# Altium footprint library USL00-30L-C.PcbLib: 1 footprints
Each footprint in its own frame and in the unit in brackets; x right, y up, seen from the top. Pads: shape width x height; smd on the part's side, far side on the other; paste and mask are expansions set on the pad; w line width, h text height; cw(c..) or ccw(c..) is an arc to the next point about the centre after c.
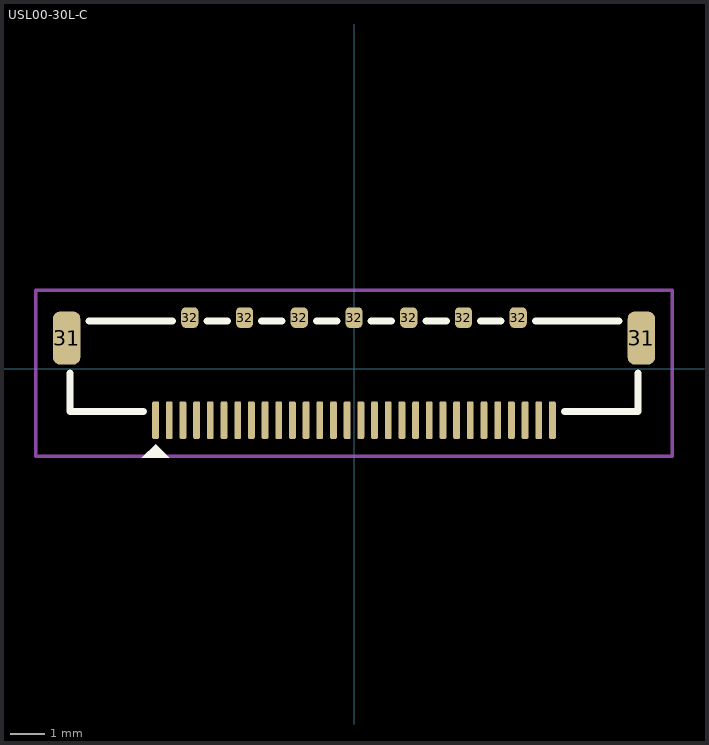
[diagram p0: the footprint, top view; thin cyan lines are the x and y axes]

## USL00-30L-C [mm]
pads (39):
  rrect50% 0.2x1.1 smd: 1(-5.8,-1.5) 2(-5.4,-1.5) 3(-5,-1.5) 4(-4.6,-1.5) 5(-4.2,-1.5) 6(-3.8,-1.5) 7(-3.4,-1.5) 8(-3,-1.5) 9(-2.6,-1.5) 10(-2.2,-1.5) 11(-1.8,-1.5) 12(-1.4,-1.5) 13(-1,-1.5) 14(-0.6,-1.5) 15(-0.2,-1.5) 16(0.2,-1.5) 17(0.6,-1.5) 18(1,-1.5) 19(1.4,-1.5) 20(1.8,-1.5) 21(2.2,-1.5) 22(2.6,-1.5) 23(3,-1.5) 24(3.4,-1.5) 25(3.8,-1.5) 26(4.2,-1.5) 27(4.6,-1.5) 28(5,-1.5) 29(5.4,-1.5) 30(5.8,-1.5)
  rrect50% 0.8x1.55 smd: 31(-8.4,0.9) 31(8.4,0.9)
  rrect50% 0.5x0.6 smd: 32(-4.8,1.5) 32(-3.2,1.5) 32(-1.6,1.5) 32(0,1.5) 32(1.6,1.5) 32(3.2,1.5) 32(4.8,1.5)
Top Overlay:
  region: -5.4,-2.6 -6.2,-2.6 -5.8,-2.2
  lines w0.2: -8.3,-0.125 -8.3,-1.25 -6.15,-1.25 ; -7.75,1.4 -5.3,1.4 ; -4.3,1.4 -3.7,1.4 ; -2.7,1.4 -2.1,1.4 ; -1.1,1.4 -0.5,1.4 ; 0.5,1.4 1.1,1.4 ; 2.1,1.4 2.7,1.4 ; 3.7,1.4 4.3,1.4 ; 5.3,1.4 7.75,1.4 ; 6.15,-1.25 8.3,-1.25 8.3,-0.125
Mechanical 1:
  text "METAL SHELL" at -3.7,-0.261 h1.2
Top Courtyard:
  lines w0.1: -9.3,-2.55 -9.3,2.3 9.3,2.3 9.3,-2.55 -5,-2.55 -9.3,-2.55
3D body "P39377_USL00-30L_s.stp": height 1, standoff 0, extent -8.3,-1.6 8.3,1.5